# Altium footprint library TS472.PcbLib: 1 footprints
Each footprint in its own frame and in the unit in brackets; x right, y up, seen from the top. Pads: shape width x height; smd on the part's side, far side on the other; paste and mask are expansions set on the pad; w line width, h text height; cw(c..) or ccw(c..) is an arc to the next point about the centre after c.
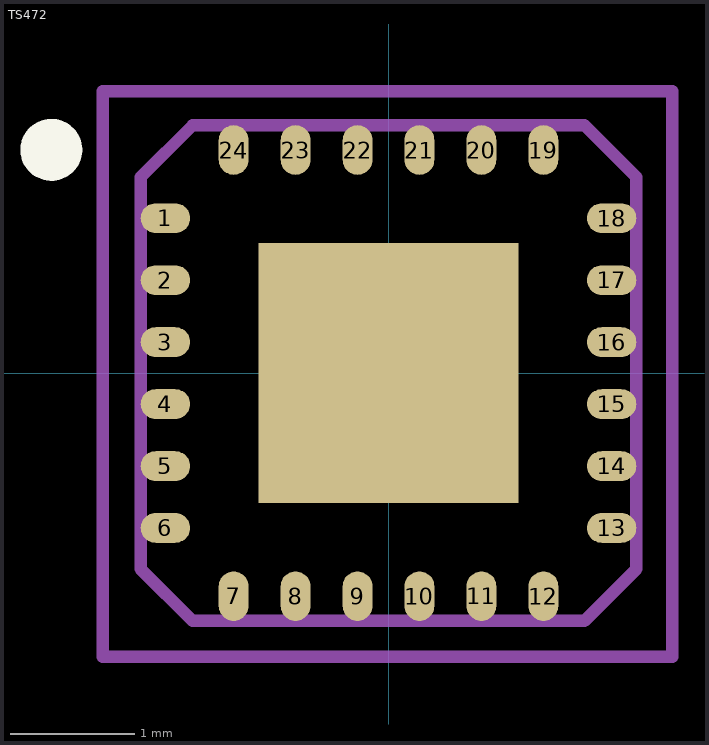
[diagram p0: the footprint, top view; thin cyan lines are the x and y axes]

## TS472 [mm]
pads (25):
  oval 0.4x0.24 smd: 1(-1.8,1.25) 2(-1.8,0.75) 3(-1.8,0.25) 4(-1.8,-0.25) 5(-1.8,-0.75) 6(-1.8,-1.25) 13(1.8,-1.25) 14(1.8,-0.75) 15(1.8,-0.25) 16(1.8,0.25) 17(1.8,0.75) 18(1.8,1.25)
  oval 0.24x0.4 smd: 7(-1.25,-1.8) 8(-0.75,-1.8) 9(-0.25,-1.8) 10(0.25,-1.8) 11(0.75,-1.8) 12(1.25,-1.8) 19(1.25,1.8) 20(0.75,1.8) 21(0.25,1.8) 22(-0.25,1.8) 23(-0.75,1.8) 24(-1.25,1.8)
  rect 2.1x2.1 smd: ""(0,0)
Top Overlay:
  circle w0.25: c-2.721,1.801 r0.125
Mechanical 13:
  lines w0.1: -2,-1.58 -2,1.58 -1.58,2 1.58,2 2,1.58 2,-1.58 1.58,-2 -1.58,-2 -2,-1.58
Mechanical 15:
  lines w0.1: -2.306,-2.288 -2.306,2.273 2.289,2.273 2.289,-2.288 -2.306,-2.288
3D body: height 0.83, standoff -0.02, extent -2,-2.007 2,1.993